# Altium footprint library SHDR2W120P580X500_2X1_790X1380X1460P.PcbLib: 1 footprints
Each footprint in its own frame and in the unit in brackets; x right, y up, seen from the top. Pads: shape width x height; smd on the part's side, far side on the other; paste and mask are expansions set on the pad; w line width, h text height; cw(c..) or ccw(c..) is an arc to the next point about the centre after c.
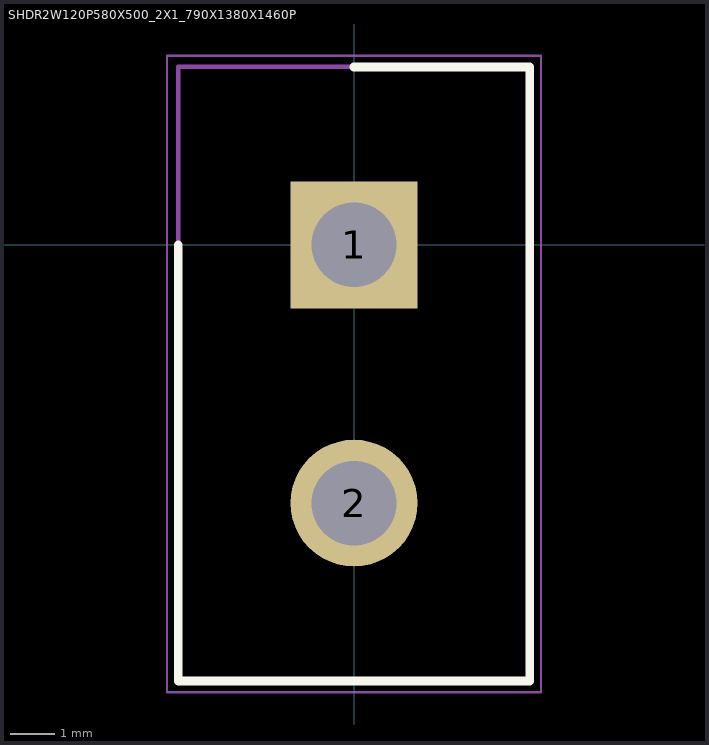
[diagram p0: the footprint, top view; thin cyan lines are the x and y axes]

## SHDR2W120P580X500_2X1_790X1380X1460P [mm]
pads (2):
  rect 2.85x2.85 / inner round 2.85 / far side rect 2.85x2.85 hole 1.9: 1(0,0)
  round 2.85 hole 1.9: 2(0,-5.8)
Top Overlay:
  lines w0.2: -3.95,0 -3.95,-9.8 3.95,-9.8 3.95,4 0,4
Mechanical 15:
  lines w0.1: -3.95,-9.8 3.95,-9.8 3.95,4 -3.95,4 -3.95,-9.8
Mechanical 20:
  lines w0.05: -4.2,-10.05 4.2,-10.05 4.2,4.25 -4.2,4.25 -4.2,-10.05